# EAGLE library part SN74ALS273N (library FDC9266_floppy_korr)
OCTAL D-TYPE FLIP-FLOPS
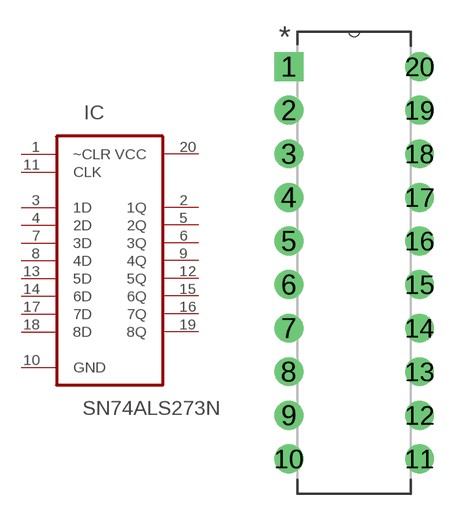
[diagram p9: symbol with the pads of DIP254P762X508-20; footprint DIP254P762X508-20]

Designator prefix IC

## SN74ALS273N (MPN: SN74ALS273N; OC_FARNELL: 1607723; OC_NEWARK: 08F6025; PACKAGE: PDIP-20; SUPPLIER: Texas Instruments)  [DIP254P762X508-20]
1  ~CLR  in
2  1Q  out
3  1D  in
4  2D  in
5  2Q  out
6  3Q  out
7  3D  in
8  4D  in
9  4Q  out
10  GND  pwr
11  CLK  in
12  5Q  out
13  5D  in
14  6D  in
15  6Q  out
16  7Q  out
17  7D  in
18  8D  in
19  8Q  out
20  VCC  pwr

## Footprint DIP254P762X508-20 (pad centres in mm)
drill 1.118 square: 1 -3.81,11.43
drill 1.118: 2 -3.81,8.89; 3 -3.81,6.35; 4 -3.81,3.81; 5 -3.81,1.27; 6 -3.81,-1.27; 7 -3.81,-3.81; 8 -3.81,-6.35; 9 -3.81,-8.89; 10 -3.81,-11.43; 11 3.81,-11.43; 12 3.81,-8.89; 13 3.81,-6.35; 14 3.81,-3.81; 15 3.81,-1.27; 16 3.81,1.27; 17 3.81,3.81; 18 3.81,6.35; 19 3.81,8.89; 20 3.81,11.43